# Altium schematic symbol library JFD_Con.SchLib: 9 symbols
Pins are listed as number, name and electrical type; pins without a type are passive.

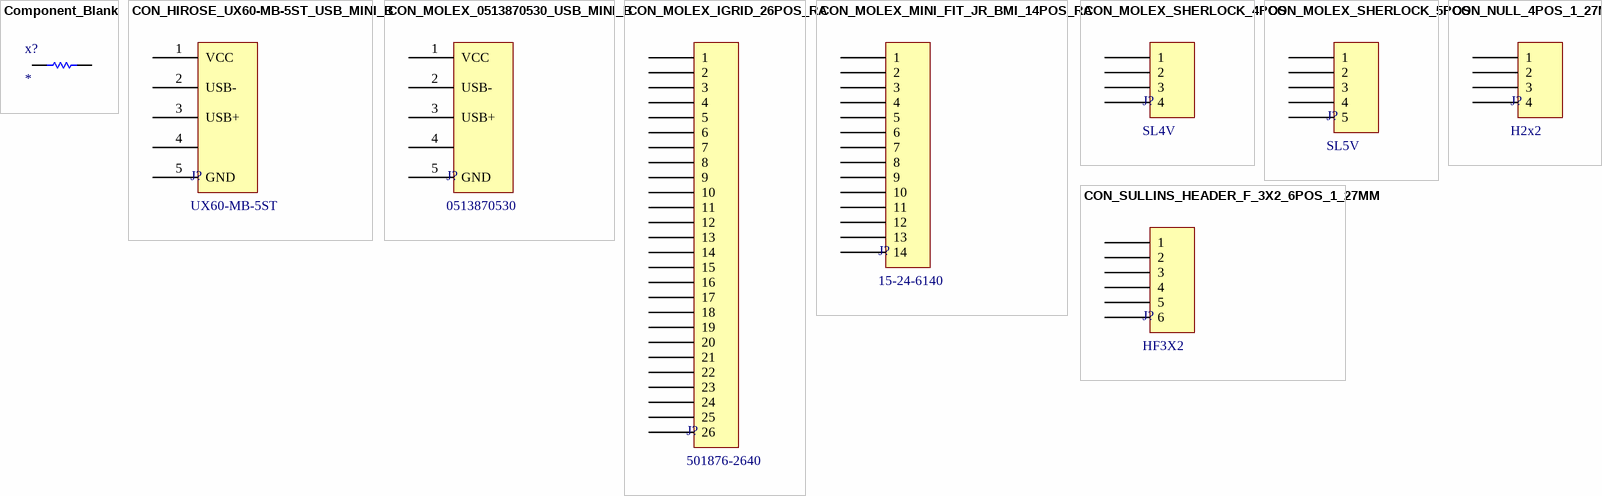
[diagram p0: symbols Component_Blank to CON_SULLINS_HEADER_F_3X2_6POS_1_27MM]

## Component_Blank
designator x?
Mfg: *; MfgPartNumber: *; Value: *; Digikey: *
pins: 1, 2

## CON_HIROSE_UX60-MB-5ST_USB_MINI_B
designator J?, comment UX60-MB-5ST
CONN RECEPT MINI USB2.0 5POS; Mfg: Hirose Electric Co Ltd; MfgPartNumber: UX60-MB-5ST; Value: UX60-MB-5ST; Digikey: H2959CT-ND
footprint USB-MINI-B
pins: 1 VCC, 2 USB-, 3 USB+, 4, 5 GND

## CON_MOLEX_0513870530_USB_MINI_B
designator J?, comment 0513870530
CONN RCPT MINIUSB B 5POS SMD R/A; Mfg: Molex Inc; MfgPartNumber: 0513870530; Value: 0513870530; Digikey: WM3756CT-ND
footprint USB-MINI-B_MOLEX
pins: 1 VCC, 2 USB-, 3 USB+, 4, 5 GND

## CON_MOLEX_IGRID_26POS_RA
designator J?, comment 501876-2640
CONN HEADER 26POS 2MM R/A TIN; Mfg: Molex Connector Corporation; MfgPartNumber: 501876-2640; Value: 501876-2640; Digikey: WM6091-ND
footprint MOLEX_IGRID_26POS_RA
pins: 1, 2, 3, 4, 5, 6, 7, 8, 9, 10, 11, 12, 13, 14, 15, 16, 17, 18, 19, 20, 21, 22, 23, 24, 25, 26

## CON_MOLEX_MINI_FIT_JR_BMI_14POS_RA
designator J?, comment 15-24-6140
CONN HEADER 14POS 4.2MM R/A TIN; Mfg: Molex Connector Corporation; MfgPartNumber: 15-24-6140; Value: 15-24-6140; Digikey: WM17803-ND
footprint MINI-FIT_RA_14POS
pins: 1, 2, 3, 4, 5, 6, 7, 8, 9, 10, 11, 12, 13, 14

## CON_MOLEX_SHERLOCK_4POS
designator J?, comment SL4V
CONN HEADER 4POS 2MM VERT TIN; MfgPartNumber: 35362-0450; Mfg: Molex Connector Corporation; Value: SL4V; Digikey: WM18922-ND
footprint MOLEX_SHERLOCK_4POS
pins: 1, 2, 3, 4

## CON_MOLEX_SHERLOCK_5POS
designator J?, comment SL5V
CONN HEADER 5POS 2MM VERT TIN; MfgPartNumber: 35362-0550; Mfg: Molex Connector Corporation; Value: SL5V; Digikey: WM18923-ND
footprint MOLEX_SHERLOCK_5POS
pins: 1, 2, 3, 4, 5

## CON_NULL_4POS_1_27MM
designator J?, comment H2x2
4 Holes 1.27mm; Mfg: -; MfgPartNumber: -; Value: H2x2; Digikey: -
footprint PINS_4POS_1_27MM
pins: 1, 2, 3, 4

## CON_SULLINS_HEADER_F_3X2_6POS_1_27MM
designator J?, comment HF3X2
CONN HEADER .050" 6POS DL PCB AU; MfgPartNumber: LPPB032CFFN-RC; Mfg: Sullins Connector Solutions; Value: HF3X2; Digikey: S9009E-03-ND
footprint HEADER_FEMALE_DUAL_6POS_1_27MM
pins: 1, 2, 3, 4, 5, 6